# EAGLE library part NC7WZ16 (library OpenMotics)
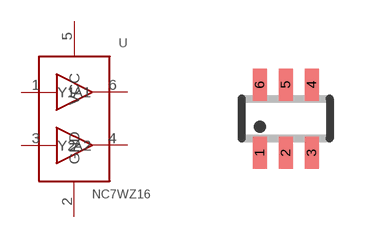
[diagram p25: symbol with the pads of SC70_6P; footprint SC70_6P]

Designator prefix U

## NC7WZ16  [SC70_6P]
1  A1
2  GND
3  A2
4  Y2
5  VCC
6  Y1

## Footprint SC70_6P (pad centres in mm)
smd 0.35 x 0.8: 1 -0.65,-0.85; 2 0,-0.85; 3 0.65,-0.85; 4 0.65,0.85; 5 0,0.85; 6 -0.65,0.85